# EAGLE library part LT1619 (library tablet)
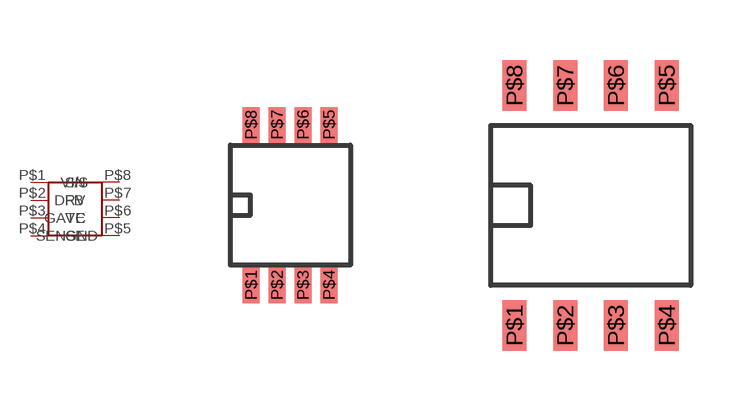
[diagram p0: symbol with the pads of MSOP; footprints MSOP, SO8]

Designator prefix -

## LT1619M  [MSOP]
P$1  S/S
P$2  FB
P$3  VC
P$4  GND
P$5  SENSE
P$6  GATE
P$7  DRV
P$8  VIN

## LT1619S  [SO8]
Pads as for MSOP

## Footprint MSOP (pad centres in mm)
smd 0.42 x 0.889: P$1 -0.98,-2.006; P$2 -0.33,-2.006; P$3 0.32,-2.006; P$4 0.97,-2.006; P$5 0.97,2.006; P$6 0.32,2.006; P$7 -0.33,2.006; P$8 -0.98,2.006

## Footprint SO8 (pad centres in mm)
smd 0.6 x 1.27: P$1 -1.905,-3; P$2 -0.635,-3; P$3 0.635,-3; P$4 1.905,-3; P$5 1.905,3; P$6 0.635,3; P$7 -0.635,3; P$8 -1.905,3